# EAGLE library part SN74AHC574PWR (library 07-Retrocomputing)
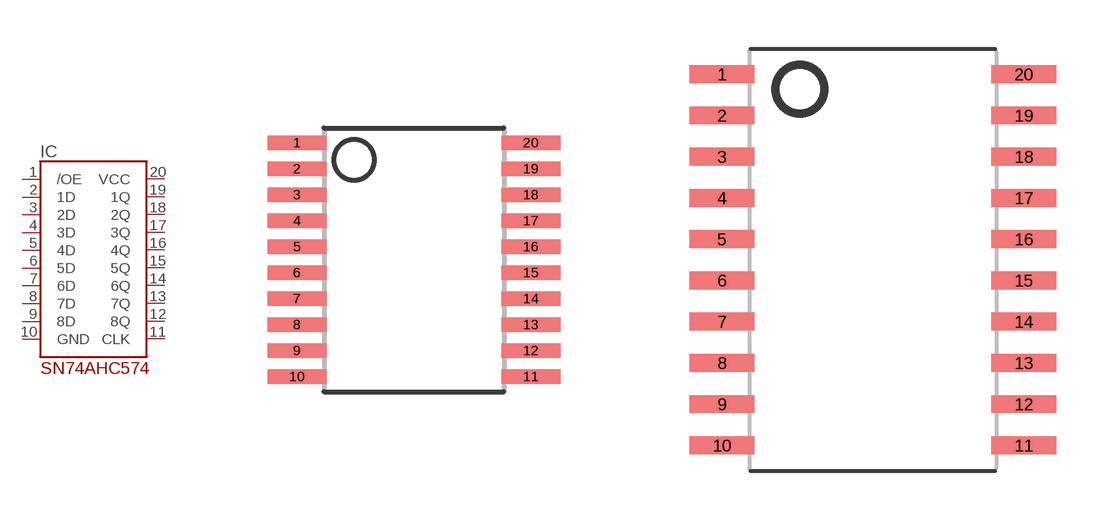
[diagram p21: symbol with the pads of TSSOP20; footprints TSSOP20, SOIC20]

Designator prefix IC

## SN74AHC574PWRTS  [TSSOP20]
1  /OE
2  1D
3  2D
4  3D
5  4D
6  5D
7  6D
8  7D
9  8D
10  GND
11  CLK
12  8Q
13  7Q
14  6Q
15  5Q
16  4Q
17  3Q
18  2Q
19  1Q
20  VCC

## SN74AHC574PWRSO  [SOIC20]
Pads as for TSSOP20

## Footprint TSSOP20 (pad centres in mm)
smd 1.5 x 0.35: 1 -2.925,2.925; 2 -2.925,2.275; 3 -2.925,1.625; 4 -2.925,0.975; 5 -2.925,0.325; 6 -2.925,-0.325; 7 -2.925,-0.975; 8 -2.925,-1.625; 9 -2.925,-2.275; 10 -2.925,-2.925; 11 2.925,-2.925; 12 2.925,-2.275; 13 2.925,-1.625; 14 2.925,-0.975; 15 2.925,-0.325; 16 2.925,0.325; 17 2.925,0.975; 18 2.925,1.625; 19 2.925,2.275; 20 2.925,2.925

## Footprint SOIC20 (pad centres in mm)
smd 2 x 0.55: 1 -4.645,5.715; 2 -4.645,4.445; 3 -4.645,3.175; 4 -4.645,1.905; 5 -4.645,0.635; 6 -4.645,-0.635; 7 -4.645,-1.905; 8 -4.645,-3.175; 9 -4.645,-4.445; 10 -4.645,-5.715; 11 4.645,-5.715; 12 4.645,-4.445; 13 4.645,-3.175; 14 4.645,-1.905; 15 4.645,-0.635; 16 4.645,0.635; 17 4.645,1.905; 18 4.645,3.175; 19 4.645,4.445; 20 4.645,5.715